# Altium schematic symbol library Schlib1.SchLib: 1 symbol
Pins are listed as number, name and electrical type; pins without a type are passive.

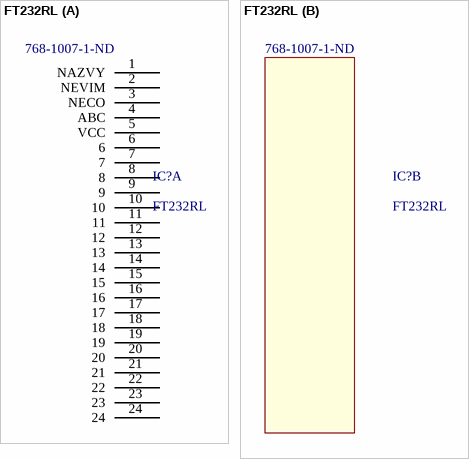
[diagram p0: symbol FT232RL]

## FT232RL
designator IC?  Supplier Part Number 1: 768-1007-1-ND
FTDI; Supplier 1: Digi-Key
part A pins: 1 NAZVY, 2 NEVIM, 3 NECO, 4 ABC, 5 VCC, 6, 7, 8, 9, 10, 11, 12, 13, 14, 15, 16, 17, 18, 19, 20, 21, 22, 23, 24